# Altium footprint library 曾宪阳PCB库.PcbLib: 142 footprints (part 6 of 9)
Each footprint in its own frame and in the unit in brackets; x right, y up, seen from the top. Pads: shape width x height; smd on the part's side, far side on the other; paste and mask are expansions set on the pad; w line width, h text height; cw(c..) or ccw(c..) is an arc to the next point about the centre after c.
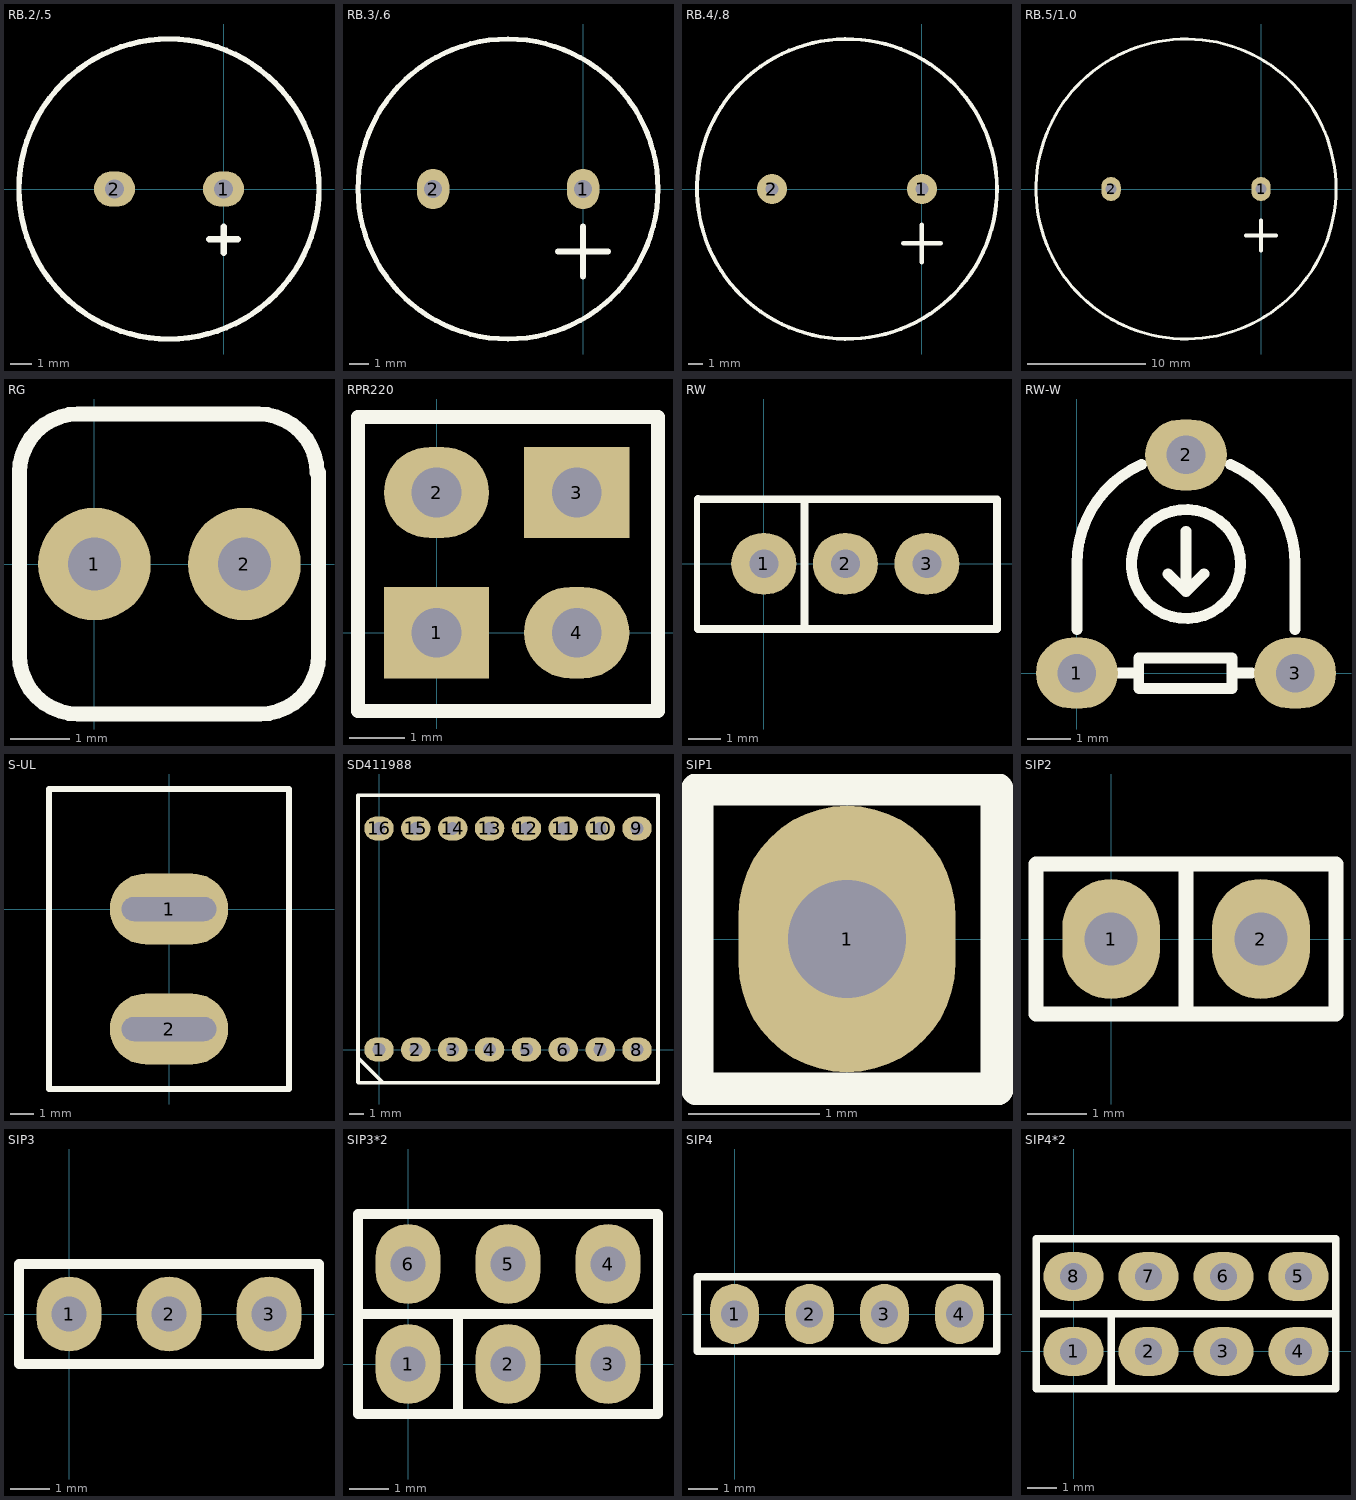
[diagram p5: the footprints below, top view; thin cyan lines are the x and y axes]

## RB.2/.5 [mil]
pads (2):
  oval 75x65 hole 35.43: 1(0,0) 2(-200,0)
Top Overlay:
  circle w10: c-100,0 r275
  lines w12: -26,-92 26,-92 ; 0,-117 0,-69

## RB.3/.6 [mil]
pads (2):
  oval 65x80 hole 35.43: 1(0,0) 2(-300,0)
Top Overlay:
  circle w10: c-150,0 r300
  lines w12: -50,-125 50,-125 ; 0,-175 0,-75

## RB.4/.8 [mil]
pads (2):
  round 80 hole 35.43: 1(0,0) 2(-400,0)
Top Overlay:
  circle w10: c-200,0 r400
  lines w12: -50,-145 50,-145 ; 0,-195 0,-95

## RB.5/1.0 [mil]
pads (2):
  oval 65x80 hole 35.43: 1(0,0) 2(-500,0)
Top Overlay:
  circle w10: c-250,0 r500
  lines w12: -50,-155 50,-155 ; 0,-205 0,-105

## RG [mm]
pads (2):
  round 1.905 hole 0.9: 1(0,0) 2(2.54,0)
Top Overlay:
  lines w0.254: 3.77,1.548 ccw(c2.778,1.548) 2.778,2.54 -0.275,2.54 ccw(c-0.275,1.545) -1.27,1.545 -1.27,-1.548 ccw(c-0.278,-1.548) -0.278,-2.54 2.802,-2.54 ccw(c2.802,-1.548) 3.794,-1.548 3.794,1.548

## RPR220 [mil]
pads (4):
  rect 75x65 hole 35.43: 1(0,0) 3(100,100)
  oval 75x65 hole 35.43: 2(0,100) 4(100,0)
Top Overlay:
  lines w10: -56,-56 -56,154 158,154 158,-56 -56,-56

## RW [mil]
pads (3):
  oval 80x75 hole 35.43: 1(0,0) 2(100,0) 3(200,0)
Top Overlay:
  lines w7.87: -82,-80 -82,77.48
  lines w10: -80.75,-80 286,-80 286,77 ; -80.75,79.48 286,79 ; 50,-79 50,77.48

## RW-W [mil]
pads (3):
  oval 75x65 hole 35.43: 1(0,0) 2(100,200) 3(200,0)
Top Overlay:
  circle w10: c100,100 r50
  lines w10: 0.01,40.02 0.01,100 cw(c100.02,100) 59.39,191.38 ; 56.65,0 38.96,0 38.87,-0.1 ; 83.59,90.71 100.02,74.64 100.02,74.58 ; 100,130 100.02,74.58 ; 116.52,91.06 100.04,74.58 100.02,74.58 ; 140.62,191.39 cw(c100.02,100) 200.01,100 200.01,40.02 ; 145.35,0 160,0 ; 38.84,-0.12 38.87,-0.1 ; 56.65,-13.91 56.74,-14 142,-14 142,13.66 56.65,13.66 56.65,-13.91

## S-UL [mm]
pads (2):
  oval 5x3 hole 1.016 slot 4 at 0 deg: 1(0,0) 2(0,-5.08)
Top Overlay:
  lines w0.254: -5.08,-7.62 5.08,-7.62 5.08,5.08 -5.08,5.08 -5.08,-7.62

## SD411988 [mil]
pads (16):
  oval 80x65 hole 35.43: 1(0,0) 2(100,0) 3(200,0) 4(300,0) 5(400,0) 6(500,0) 7(600,0) 8(700,0) 9(700,600) 10(600,600) 11(500,600) 12(400,600) 13(300,600) 14(200,600) 15(100,600) 16(0,600)
Top Overlay:
  lines w9.84: -57,-89 -57,-39 -57,690 757,690 757,-90 10,-90 -56,-90 ; -57,-22 8,-87

## SIP1 [mil]
pads (1):
  oval 65x80 hole 35.43: 1(0,0)
Top Overlay:
  lines w10: -45,-45 45,-45 45,45 -45,45 -45,35 -45,-45

## SIP2 [mil]
pads (2):
  oval 65x80 hole 35.43 unplated: 1(0,0) 2(100,0)
Top Overlay:
  lines w10: 50,-50 50,50 ; -50,-50 -50,50 150,50 150,-50 -50,-50

## SIP3 [mil]
pads (3):
  oval 65x75 hole 35.43: 1(0,0) 2(100,0) 3(200,0)
Top Overlay:
  lines w10: -50,-50 250,-50 250,50 -50,50 -50,-50

## SIP3*2 [mil]
pads (6):
  oval 65x80 hole 35.43: 1(0,0) 2(100,0) 3(200,0) 4(200,100) 5(100,100) 6(0,100)
Top Overlay:
  lines w10: 50,-50 50,50 ; -50,50 250,50 ; -50,50 -50,-50 250,-50 250,50 ; -50,50 -50,150 250,150 250,50

## SIP4 [mil]
pads (4):
  oval 65x80 hole 35.43: 1(0,0) 2(100,0) 3(200,0) 4(300,0)
Top Overlay:
  lines w10: -50,-50 350,-50 350,50 -50,50 -50,-50

## SIP4*2 [mil]
pads (8):
  oval 80x65 hole 35.43: 1(0,0) 2(100,0) 3(200,0) 4(300,0) 5(300,100) 6(200,100) 7(100,100) 8(0,100)
Top Overlay:
  lines w10: 50,-50 50,50 ; -50,50 350,50 ; -50,50 -50,-50 350,-50 350,50 ; -50,50 -50,150 350,150 350,50